# Altium schematic symbol library MOTHERBOARD_1.SCHLIB: 56 symbols
Pins are listed as number, name and electrical type; pins without a type are passive.

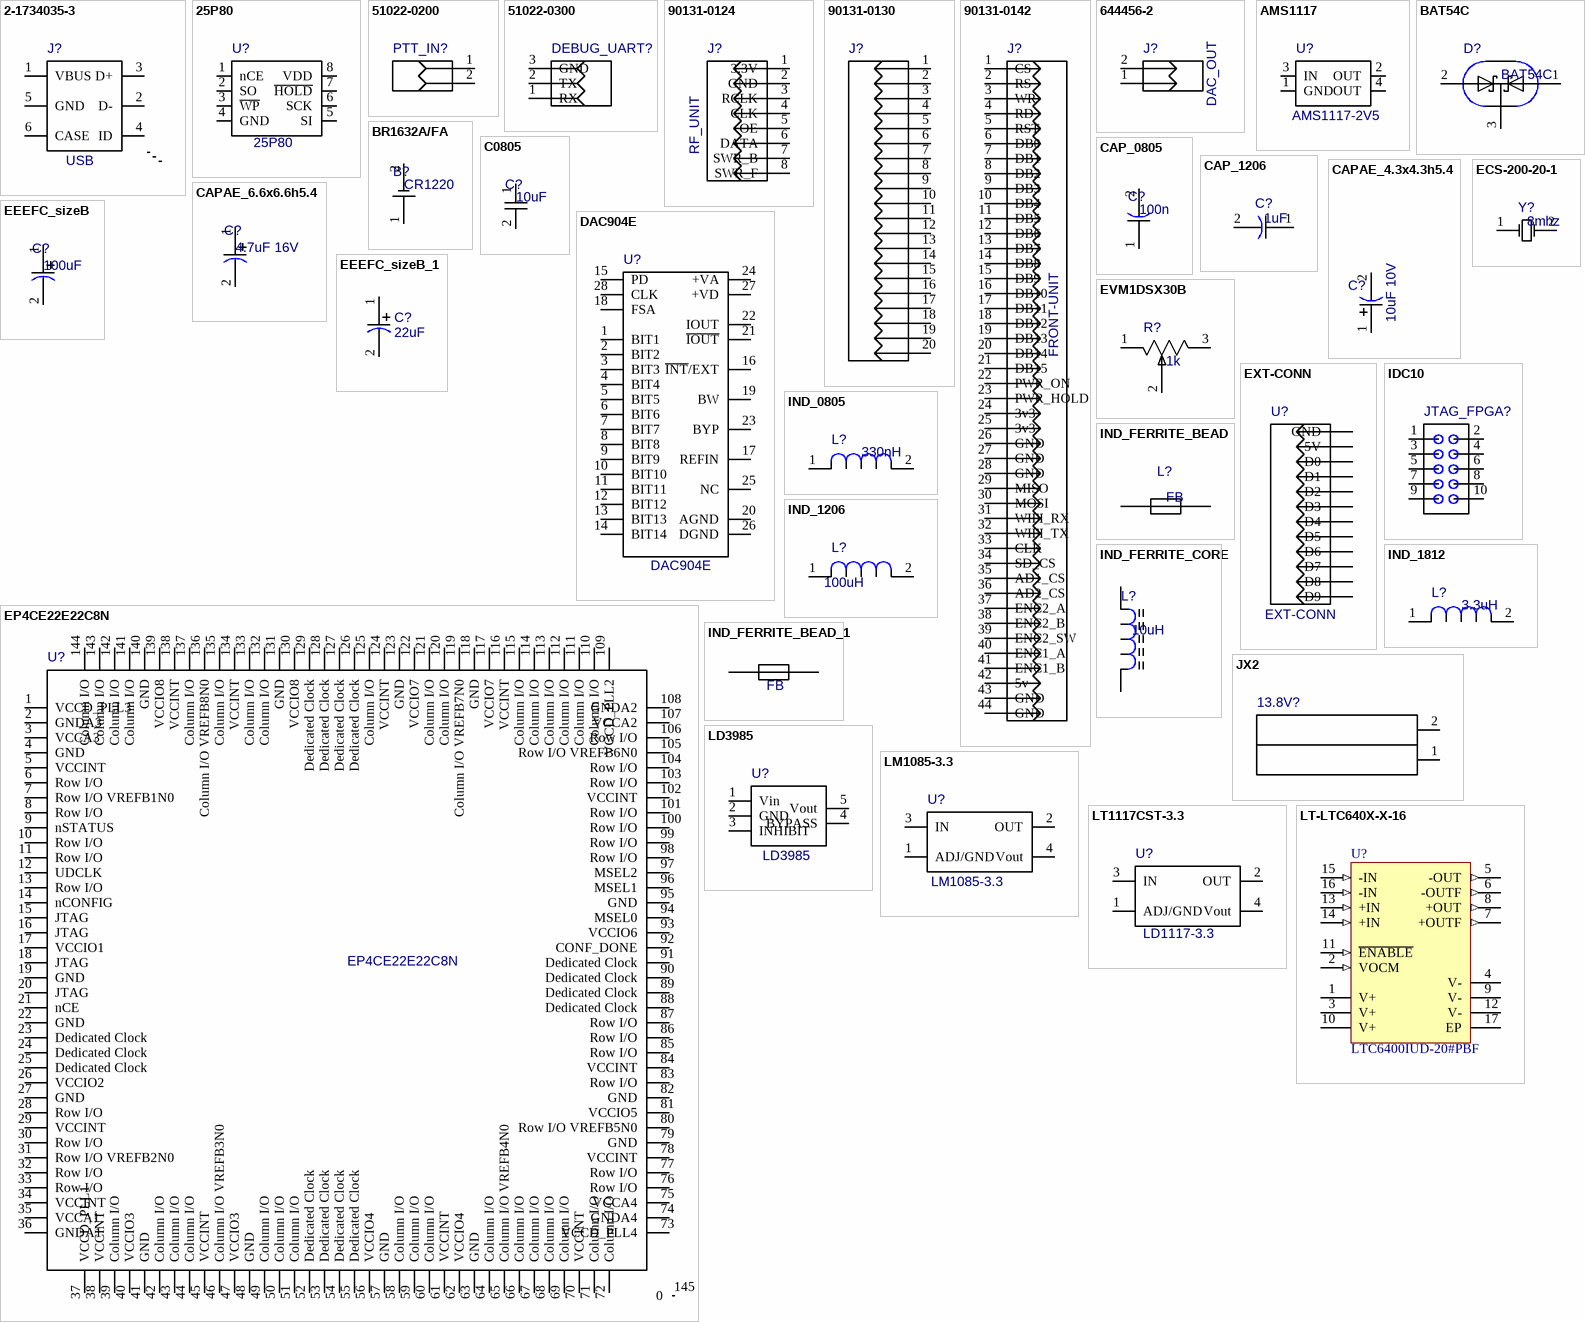
[diagram p0: symbols 2-1734035-3 to LT-LTC640X-X-16]

## 2-1734035-3
designator J?, comment USB
2-1734035-3; Value: USB
footprint 1734035
footprint 2-1734035-3
pins: 1 VBUS, 2 D-, 3 D+, 4 ID, 5 GND, 6 CASE, 7 0, 8 0, 9 0

## 25P80
designator U?
Value: 25P80
footprint SOIC-8/209mil
footprint 25P80
pins: 1 nCE, 2 SO, 3 ~{WP}, 4 GND, 5 SI, 6 SCK, 7 ~{HOLD}, 8 VDD

## 51022-0200
designator PTT_IN?
51022-0200
footprint HDR-1x2T/2.54/5x2
footprint 51022-0200
pins: 1, 2

## 51022-0300
designator DEBUG_UART?
51022-0300
footprint HDR-1x3T/2.54/7x2
footprint 51022-0300
pins: 1 RX, 2 TX, 3 GND

## 90131-0124
designator J?, comment RF_UNIT
90131-0124; Value: RF_UNIT
footprint HDR-2x4T/2.54x2.54/10x5
footprint 90131-0124
pins: 1 3.3V, 2 GND, 3 RCLK, 4 CLK, 5 OE, 6 DATA, 7 SWR_B, 8 SWR_F

## 90131-0130
designator J?, comment JTAG_STM32  (value not drawn)
90131-0130; Value: JTAG_STM32
footprint HDR-2x10T/2.54x2.54/25x5
footprint 90131-0130
pins: 1 P1, 2 P2, 3 P3, 4 P4, 5 P5, 6 P6, 7 P7, 8 P8, 9 P9, 10 P10, 11 P11, 12 P12, 13 P13, 14 P14, 15 P15, 16 P16, 17 P17, 18 P18, 19 P19, 20 P20

## 90131-0142
designator J?, comment FRONT-UNIT
90131-0142; Value: FRONT-UNIT
footprint HDR-2x22T/2.54x2.54/56x5
footprint 90131-0142
pins: 1 CS, 2 RS, 3 WR, 4 RD, 5 RST, 6 DB0, 7 DB1, 8 DB2, 9 DB3, 10 DB4, 11 DB5, 12 DB6, 13 DB7, 14 DB8, 15 DB9, 16 DB10, 17 DB11, 18 DB12, 19 DB13, 20 DB14, 21 DB15, 22 PWR_ON, 23 PWR_HOLD, 24 3v3, 25 3v3, 26 GND, 27 GND, 28 GND, 29 MISO, 30 MOSI, 31 WIFI_RX, 32 WIFI_TX, 33 CLK, 34 SD_CS, 35 AD1_CS, 36 AD2_CS, 37 ENC2_A, 38 ENC2_B, 39 ENC2_SW, 40 ENC1_A, 41 ENC1_B, 42 5v, 43 GND, 44 GND

## 644456-2
designator J?, comment DAC_OUT
644456-2; Value: DAC_OUT
footprint HDR-1x2T/2.54/5x2
footprint 644456-2
pins: 1 P1, 2 P2

## AMS1117
designator U?, comment value AMS1117-2V5  (hidden comment: 2V5)
AMS1117
footprint SOT223-4
footprint AMS1117
pins: 1 GND, 2 OUT, 3 IN, 4 OUT

## BAT54C
designator D?
Value: BAT54C
footprint SOT23
footprint BAT54C
pins: 1 (A1), 2 (A2), 3 (K1),(K2)

## BR1632A/FA
designator B?, comment CR1220
BR1632A/FA; Value: CR1220
footprint BR1632/HFN
footprint BR1632A/FA
pins: 1 POS, 2 NEG

## C0805
designator C?, comment 10uF
C0805; Value: 10uF
footprint CAP_1206
footprint C0805
pins: 1, 2

## CAP_0805
designator C?, comment 100n
CAP_0805; Value: 100n
footprint CAP_0805
pins: 1, 2

## CAP_1206
designator C?, comment 1uF
CAP_1206; Value: 1uF
footprint CAP_1206
pins: 1, 2

## CAPAE_4.3x4.3h5.4
designator C?, comment 10uF 10V
CAPAE_4.3x4.3h5.4; Value: 10uF 10V
footprint TC_1411
footprint CAPAE_4.3x4.3h5.4
pins: 1 PLUS, 2 MINUS

## CAPAE_6.6x6.6h5.4
designator C?, comment 4.7uF 16V
CAPAE_6.6x6.6h5.4; Value: 4.7uF 16V
footprint CAPAE-6.6x6.6h5.4
footprint CAPAE_6.6x6.6h5.4
pins: 1 PLUS, 2 MINUS

## DAC904E
designator U?
Value: DAC904E
footprint TSSOP-28
footprint DAC904E
pins: 1 BIT1, 2 BIT2, 3 BIT3, 4 BIT4, 5 BIT5, 6 BIT6, 7 BIT7, 8 BIT8, 9 BIT9, 10 BIT10, 11 BIT11, 12 BIT12, 13 BIT13, 14 BIT14, 15 PD, 16 ~{INT}/EXT, 17 REFIN, 18 FSA, 19 BW, 20 AGND, 21 ~{IOUT}, 22 IOUT, 23 BYP, 24 +VA, 25 NC, 26 DGND, 27 +VD, 28 CLK

## ECS-200-20-1
designator Y?, comment 8mhz
ECS-200-20-1; Value: 8mhz
footprint HC-49U
footprint ECS-200-20-1
pins: 1 OSC1, 2 OSC2

## EEEFC_sizeB
designator C?, comment 100uF
EEEFC_sizeB; Value: 100uF
footprint TC_1411
footprint EEEFC_sizeB
pins: 1 PLUS, 2 MINUS

## EEEFC_sizeB_1
designator C?, comment value 22uF  (hidden comment: EEEFC_sizeB)
footprint TC3528-1411 (Capacitor, SM Tantalum; Body 3.5 x 2.8 mm (LxW typ))
pins: 1 PLUS, 2 MINUS

## EP4CE22E22C8N
designator U?
Value: EP4CE22E22C8N
footprint QFP-144V2EP/22x22x0.5
footprint EP4CE22E22C8N
pins: 1 VCCD_PLL3, 2 GNDA3, 3 VCCA3, 4 GND, 5 VCCINT, 6 Row I/O, 7 Row I/O VREFB1N0, 8 Row I/O, 9 nSTATUS, 10 Row I/O, 11 Row I/O, 12 UDCLK, 13 Row I/O, 14 nCONFIG, 15 JTAG, 16 JTAG, 17 VCCIO1, 18 JTAG, 19 GND, 20 JTAG, 21 nCE, 22 GND, 23 Dedicated Clock, 24 Dedicated Clock, 25 Dedicated Clock, 26 VCCIO2, 27 GND, 28 Row I/O, 29 VCCINT, 30 Row I/O, 31 Row I/O VREFB2N0, 32 Row I/O, 33 Row I/O, 34 VCCINT, 35 VCCA1, 36 GNDA1, 37 VCCD_PLL1, 38 VCCINT, 39 Column I/O, 40 VCCIO3, 41 GND, 42 Column I/O, 43 Column I/O, 44 Column I/O, 45 VCCINT, 46 Column I/O VREFB3N0, 47 VCCIO3, 48 GND, 49 Column I/O, 50 Column I/O, 51 Column I/O, 52 Dedicated Clock, 53 Dedicated Clock, 54 Dedicated Clock, 55 Dedicated Clock, 56 VCCIO4, 57 GND, 58 Column I/O, 59 Column I/O, 60 Column I/O, 61 VCCINT, 62 VCCIO4, 63 GND, 64 Column I/O, 65 Column I/O VREFB4N0, 66 Column I/O, 67 Column I/O, 68 Column I/O, 69 Column I/O, 70 VCCINT, 71 Column I/O, 72 Column I/O, 73 VCCD_PLL4, 74 GNDA4, 75 VCCA4, 76 Row I/O, 77 Row I/O, 78 VCCINT, 79 GND, 80 Row I/O VREFB5N0, 81 VCCIO5, 82 GND, 83 Row I/O, 84 VCCINT, 85 Row I/O, 86 Row I/O, 87 Row I/O, 88 Dedicated Clock, 89 Dedicated Clock, 90 Dedicated Clock, 91 Dedicated Clock, 92 CONF_DONE, 93 VCCIO6, 94 MSEL0, 95 GND, 96 MSEL1, 97 MSEL2, 98 Row I/O, 99 Row I/O, 100 Row I/O, 101 Row I/O, 102 VCCINT, 103 Row I/O, 104 Row I/O, 105 Row I/O VREFB6N0, 106 Row I/O, 107 VCCA2, 108 GNDA2, 109 VCCD_PLL2, 110 Column I/O, 111 Column I/O, 112 Column I/O, 113 Column I/O, 114 Column I/O, 115 Column I/O, 116 VCCINT, 117 VCCIO7, 118 GND, 119 Column I/O VREFB7N0, 120 Column I/O, 121 Column I/O, 122 VCCIO7, 123 GND, 124 VCCINT, 125 Column I/O, 126 Dedicated Clock, 127 Dedicated Clock, 128 Dedicated Clock, 129 Dedicated Clock, 130 VCCIO8, 131 GND, 132 Column I/O, 133 Column I/O, 134 VCCINT, 135 Column I/O, 136 Column I/O VREFB8N0, 137 Column I/O, 138 VCCINT, 139 VCCIO8, 140 GND, 141 Column I/O, 142 Column I/O, 143 Column I/O, 144 Column I/O, 145 0

## EVM1DSX30B
designator R?, comment 1k
EVM1DSX30B; Value: 1k
footprint EVM1D
footprint EVM1DSX30B
pins: 1, 2, 3

## EXT-CONN
designator U?
90131-0130; Value: EXT-CONN
footprint EXT-CONN
pins: 1 GND, 2 5V, 3 D0, 4 D1, 5 D2, 6 D3, 7 D4, 8 D5, 9 D6, 10 D7, 11 D8, 12 D9

## IDC10
designator JTAG_FPGA?
IDC10
footprint IDC10M
footprint IDC10
pins: 1, 2, 3, 4, 5, 6, 7, 8, 9, 10

## IND_0805
designator L?, comment 330nH
IND_0805; Value: 330nH
footprint IND_0805
pins: 1, 2

## IND_1206
designator L?  value 100uH  (hidden comment: IND_1206)
footprint 14-1210 (Chip Resistor, Body 3.2x2.5mm, IPC High Density)
pins: 1, 2

## IND_1812
designator L?, comment 3.3uH
IND_1812; Value: 3.3uH
footprint IND_1812
pins: 1, 2

## IND_FERRITE_BEAD
designator L?, comment FB
Ferrite bead on conductor; Value: FB
footprint RES-6.5/3.4x1.9
footprint IND_FERRITE_BEAD
pins: 1, 2

## IND_FERRITE_BEAD_1
designator L?, comment value FB  (hidden comment: IND_FERRITE_BEAD)
Ferrite bead on conductor
footprint RES6.5-3.4X1.9 (Resistor, Axial; Body 3.4 x 1.9 mm (LxDia. max), Lead Dia. 0.5 mm (max))
pins: 1, 2

## IND_FERRITE_CORE
designator L?, comment 10uH
Inductor; Value: 10uH
footprint B82464Z4
footprint IND_FERRITE_CORE
pins: 1 A, 2 B

## JX2
designator 13.8V?
JX2
footprint TBH-1x2/3.81/8x3
footprint JX2
pins: 1 2, 2 1

## LD3985
designator U?
Value: LD3985
footprint SOT23-5
footprint LD3985
pins: 1 Vin, 2 GND, 3 INHIBIT, 4 BYPASS, 5 Vout

## LM1085-3.3
designator U?
Value: LM1085-3.3
footprint TO263-4/14x10.2x2.54
footprint LM1085-3.3
pins: 1 ADJ/GND, 2 OUT, 3 IN, 4 Vout

## LT1117CST-3.3
designator U?, comment LD1117-3.3
LT1117CST-3.3; Value: LD1117-3.3
footprint SOT223-4
footprint LT1117CST-3.3
pins: 1 ADJ/GND, 2 OUT, 3 IN, 4 Vout

## LT-LTC640X-X-16
designator U?, comment LTC6400IUD-20#PBF
Single Channel, Low Noise, Low Distortion Differential ADC Driver for 300 MHz IF, 1800 MHz Typical GBW, 4500 V/us Typical SR, 2.85 to 3.5 V, 16-Pin QFN (UD-16), Industrial, Pb-Free; Manufacturer: Linear Technology; Linear Technology Part Number: LTC6400-20; Vs Min (V): 2.85; SR (V/us) Typical: 4500; Is (mA) Typical: 90; Vs Max (V): 3.5; Vos (mV) Typical: 2; GBW (MHz) Typical: 1800; Channels (#): 1; RoHS: Pb-Free; PackageReference: LT-UD-16; Type: DIFF; ComponentLink3Description: Package Specification; PackageDescription: 16-Lead Plastic QFN, Body 3.00 x 3.00 mm, Pitch 0.5 mm; ComponentLink1URL: http://www.linear.com/; Mounting Technology: Surface Mount; ComponentLink2URL: http://cds.linear.com/docs/en/datasheet/640020f.pdf; Code_JEDEC: MO-220; PartNumber: LTC6400IUD-20#PBF; ComponentLink3URL: http://cds.linear.com/docs/en/packaging/QFN_16_05-08-1691.pdf; ComponentLink2Description: Datasheet; ComponentLink1Description: Manufacturer URL; RevisionNote: URLs updated
footprint LT-UD-16_N (QFN, 16-Leads, Body 3x3mm, Pitch 0.5mm, Thermal Pad 1.45x1.45mm, IPC Medium Density)
footprint LT-UD-16_M (QFN, 16-Leads, Body 3x3mm, Pitch 0.5mm, Thermal Pad 1.45x1.45mm, IPC Low Density)
footprint LT-UD-16_L (QFN, 16-Leads, Body 3x3mm, Pitch 0.5mm, Thermal Pad 1.45x1.45mm, IPC High Density)
pins: 1 V+ (power) "Positive Power Supply (Normally tied to 3V or 3.3V). All three pins must be tied to the same voltage. Bypass each pin with 1000pF and 0.1uF capacitors as close to the pins as possible.", 2 VOCM (in) "This pin sets the output common mode voltage. A 0.1uF external bypass capacitor is recommended.", 3 V+ (power) "Positive Power Supply (Normally tied to 3V or 3.3V). All three pins must be tied to the same voltage. Bypass each pin with 1000pF and 0.1uF capacitors as close to the pins as possible.", 4 V- (power) "Negative Power Supply. All four pins must be connected to the same voltage/ground.", 5 -OUT (out) "Unfiltered Outputs. These pins have 12.5ohm series resistors.", 6 -OUTF (out) "Filtered Outputs. These pins have 50ohm series resistors and a 1.7pF shunt capacitance.", 7 +OUTF (out) "Filtered Outputs. These pins have 50ohm series resistors and a 1.7pF shunt capacitance.", 8 +OUT (out) "Unfiltered Outputs. These pins have 12.5ohm series resistors.", 9 V- (power) "Negative Power Supply. All four pins must be connected to the same voltage/ground.", 10 V+ (power) "Positive Power Supply (Normally tied to 3V or 3.3V). All three pins must be tied to the same voltage. Bypass each pin with 1000pF and 0.1uF capacitors as close to the pins as possible.", 11 ~{ENABLE} (in) "This pin is a logic input referenced to V-. If low, the part is enabled. If high, the part is disabled and draws approximately 1mA supply current.", 12 V- (power) "Negative Power Supply. All four pins must be connected to the same voltage/ground.", 13 +IN (in) "Positive Input. Pins 13 and 14 are internally shorted together.", 14 +IN (in) "Positive Input. Pins 13 and 14 are internally shorted together.", 15 -IN (in) "Negative Input. Pins 15 and 16 are internally shorted together.", 16 -IN (in) "Negative Input. Pins 15 and 16 are internally shorted together.", 17 EP (power) "The Exposed Pad must be connected to the same voltage/ground as pins 4, 9, 12."

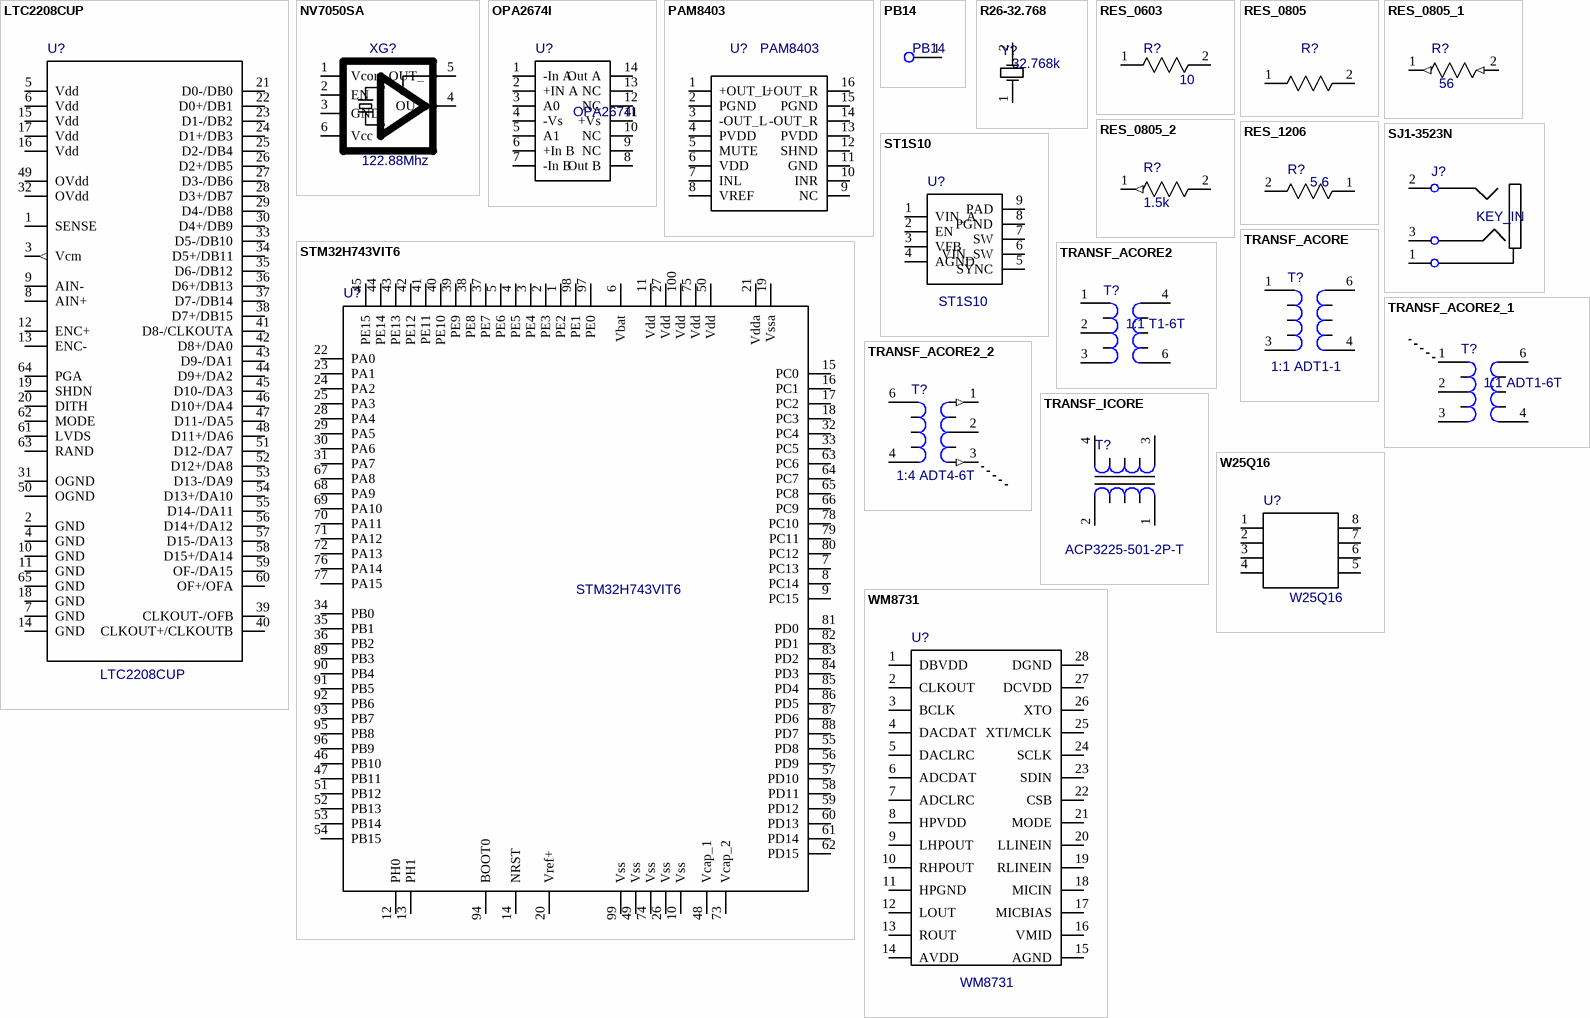
[diagram p1: symbols LTC2208CUP to WM8731]

## LTC2208CUP
designator U?
Value: LTC2208CUP
footprint ENMR-QFN64_N (QFN, 64-Leads, Body 9x9mm, Pitch 0.5mm, IPC Medium Density)
footprint LTC2208CUP
pins: 1 SENSE, 2 GND, 3 Vcm (out), 4 GND, 5 Vdd, 6 Vdd, 7 GND, 8 AIN+, 9 AIN-, 10 GND, 11 GND, 12 ENC+, 13 ENC-, 14 GND, 15 Vdd, 16 Vdd, 17 Vdd, 18 GND, 19 SHDN, 20 DITH, 21 D0-/DB0, 22 D0+/DB1, 23 D1-/DB2, 24 D1+/DB3, 25 D2-/DB4, 26 D2+/DB5, 27 D3-/DB6, 28 D3+/DB7, 29 D4-/DB8, 30 D4+/DB9, 31 OGND, 32 OVdd, 33 D5-/DB10, 34 D5+/DB11, 35 D6-/DB12, 36 D6+/DB13, 37 D7-/DB14, 38 D7+/DB15, 39 CLKOUT-/OFB, 40 CLKOUT+/CLKOUTB, 41 D8-/CLKOUTA, 42 D8+/DA0, 43 D9-/DA1, 44 D9+/DA2, 45 D10-/DA3, 46 D10+/DA4, 47 D11-/DA5, 48 D11+/DA6, 49 OVdd, 50 OGND, 51 D12-/DA7, 52 D12+/DA8, 53 D13-/DA9, 54 D13+/DA10, 55 D14-/DA11, 56 D14+/DA12, 57 D15-/DA13, 58 D15+/DA14, 59 OF-/DA15, 60 OF+/OFA, 61 LVDS, 62 MODE, 63 RAND, 64 PGA, 65 GND

## NV7050SA
designator XG?, comment 122.88Mhz
NV7050SA; Value: 122.88Mhz
footprint NV7050SA
pins: 1 Vcont, 2 EN, 3 GND, 4 OUT, 5 OUT_, 6 Vcc

## OPA2674I
designator U?
Value: OPA2674I
footprint SOIC-14/150mil
footprint OPA2674I
pins: 1 -In A, 2 +IN A, 3 A0, 4 -Vs, 5 A1, 6 +In B, 7 -In B, 8 Out B, 9 NC, 10 NC, 11 +Vs, 12 NC, 13 NC, 14 Out A

## PAM8403
designator U?
Value: PAM8403
footprint SOP-16/7x1.27
footprint PAM8403
pins: 1 +OUT_L, 2 PGND, 3 -OUT_L, 4 PVDD, 5 MUTE, 6 VDD, 7 INL, 8 VREF, 9 NC, 10 INR, 11 GND, 12 SHND, 13 PVDD, 14 -OUT_R, 15 PGND, 16 +OUT_R

## PB14
designator NetPort?  (graphical)
pins: 1

## R26-32.768
designator Y?, comment 32.768k
R26-32.768; Value: 32.768k
footprint BCY-2/D2.1
footprint R26-32.768
pins: 1 OSC1, 2 OSC2

## RES_0603
designator R?  value 10  (hidden comment: RES_0603)
footprint RES_0603
pins: 1, 2

## RES_0805
designator R?, comment 10k  (value not drawn)
RES_0805; Value: 10k
footprint RES_0805
pins: 1, 2

## RES_0805_1
designator R?, comment value 56  (hidden comment: RES_0805)
footprint RES_0805
pins: 1 (out), 2 (in)

## RES_0805_2
designator R?, comment value 1.5k  (hidden comment: RES_0805)
footprint RES_0805
pins: 1 (out), 2

## RES_1206
designator R?, comment 5.6
RES_1206; Value: 5.6
footprint RES_1206
pins: 1, 2

## SJ1-3523N
designator J?, comment KEY_IN
SJ1-3523N; Value: KEY_IN
footprint SJ1-3523N
pins: 1 sleeve, 2 tip, 3 ring

## ST1S10
designator U?
Value: ST1S10
footprint SOIC-8V2EP/150mil
footprint ST1S10
pins: 1 VIN_A, 2 EN, 3 VFB, 4 AGND, 5 SYNC, 6 VIN_SW, 7 SW, 8 PGND, 9 PAD

## STM32H743VIT6
designator U?
Value: STM32H743VIT6
footprint QFP-100/16x16x0.5
footprint STM32H743VIT6
pins: 1 PE2, 2 PE3, 3 PE4, 4 PE5, 5 PE6, 6 Vbat, 7 PC13, 8 PC14, 9 PC15, 10 Vss, 11 Vdd, 12 PH0, 13 PH1, 14 NRST, 15 PC0, 16 PC1, 17 PC2, 18 PC3, 19 Vssa, 20 Vref+, 21 Vdda, 22 PA0, 23 PA1, 24 PA2, 25 PA3, 26 Vss, 27 Vdd, 28 PA4, 29 PA5, 30 PA6, 31 PA7, 32 PC4, 33 PC5, 34 PB0, 35 PB1, 36 PB2, 37 PE7, 38 PE8, 39 PE9, 40 PE10, 41 PE11, 42 PE12, 43 PE13, 44 PE14, 45 PE15, 46 PB10, 47 PB11, 48 Vcap_1, 49 Vss, 50 Vdd, 51 PB12, 52 PB13, 53 PB14, 54 PB15, 55 PD8, 56 PD9, 57 PD10, 58 PD11, 59 PD12, 60 PD13, 61 PD14, 62 PD15, 63 PC6, 64 PC7, 65 PC8, 66 PC9, 67 PA8, 68 PA9, 69 PA10, 70 PA11, 71 PA12, 72 PA13, 73 Vcap_2, 74 Vss, 75 Vdd, 76 PA14, 77 PA15, 78 PC10, 79 PC11, 80 PC12, 81 PD0, 82 PD1, 83 PD2, 84 PD3, 85 PD4, 86 PD5, 87 PD6, 88 PD7, 89 PB3, 90 PB4, 91 PB5, 92 PB6, 93 PB7, 94 BOOT0, 95 PB8, 96 PB9, 97 PE0, 98 PE1, 99 Vss, 100 Vdd

## TRANSF_ACORE
designator T?, comment 1:1 ADT1-1
Transformer; Value: 1:1 ADT1-1
footprint ADT-TRANS-HYBRID
footprint TRANSF_ACORE
pins: 1 P1, 3 P2, 4 S2, 6 S1, 7 0, 8 0, 9 0, 10 0, 11 0

## TRANSF_ACORE2
designator T?, comment 1:1 T1-6T
Transformer; Value: 1:1 T1-6T
footprint ADT-TRANS-HYBRID
footprint TRANSF_ACORE2
pins: 1 S3, 2 S2, 3 S1, 4 P2, 6 P1, 7 0, 8 0, 9 0, 10 0, 11 0

## TRANSF_ACORE2_1
designator T?, comment 1:1 ADT1-6T
Transformer; Value: 1:1 ADT1-6T
footprint ADT-TRANS-HYBRID
footprint TRANSF_ACORE2_1
pins: 1 S3, 2 S2, 3 S1, 4 P1, 6 P2, 7 0, 8 0, 9 0, 10 0, 11 0

## TRANSF_ACORE2_2
designator T?, comment value 1:4 ADT4-6T  (hidden comment: TRANSF_ACORE2)
Transformer
footprint ADT-TRANS-HYBRID
footprint TRANSF_ACORE2
pins: 1 S1 (out), 2 S2, 3 S3 (out), 4 P2, 6 P1, 7, 8, 9, 10, 11

## TRANSF_ICORE
designator T?, comment ACP3225-501-2P-T
Transformer; Value: ACP3225-501-2P-T
footprint ACP3225
footprint TRANSF_ICORE
pins: 1 S1, 2 S2, 3 P1, 4 P2

## W25Q16
designator U?
Value: W25Q16
footprint SOIC-8/300mil
footprint W25Q16
pins: 1 CS, 2 SO, 3 WP, 4 GND, 5 SI, 6 CLK, 7 HOLD, 8 VCC

## WM8731
designator U?
Value: WM8731
footprint SSOP-28
footprint WM8731
pins: 1 DBVDD, 2 CLKOUT, 3 BCLK, 4 DACDAT, 5 DACLRC, 6 ADCDAT, 7 ADCLRC, 8 HPVDD, 9 LHPOUT, 10 RHPOUT, 11 HPGND, 12 LOUT, 13 ROUT, 14 AVDD, 15 AGND, 16 VMID, 17 MICBIAS, 18 MICIN, 19 RLINEIN, 20 LLINEIN, 21 MODE, 22 CSB, 23 SDIN, 24 SCLK, 25 XTI/MCLK, 26 XTO, 27 DCVDD, 28 DGND